# EAGLE library part ADT2-1T-1P+ (library SamacSys_Parts)
Audio Transformers / Signal Transformers RF XFMR / SURF MOUNT / RoHS 50 0.5 to 650 MHz Source: Datasheet <https://www.minicircuits.com/pdfs/ADT1.5-1.pdf>
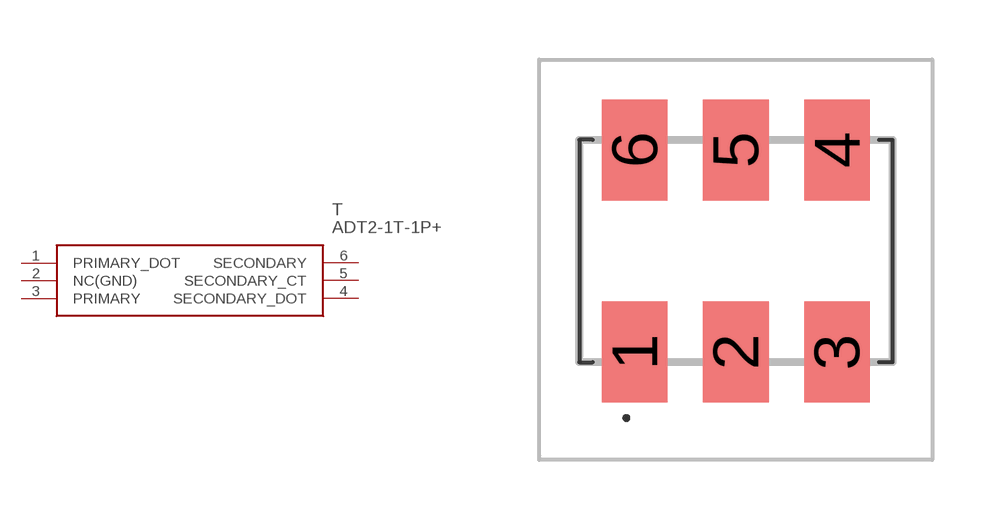
[diagram p0: symbol with the pads of ADT2-1T-1P; footprint ADT2-1T-1P]

Designator prefix T

## ADT2-1T-1P+ (Description: Audio Transformers / Signal Transformers RF XFMR / SURF MOUNT / RoHS; Height: 2.84mm; Manufacturer_Name: Mini-Circuits; Manufacturer_Part_Number: ADT2-1T-1P+; Mouser_Part_Number: 139-ADT2-1T-1P+; Mouser_Price-Stock: https://www.mouser.com/ProductDetail/Mini-Circuits/ADT2-1T-1P+?qs=xZ%2FP%252Ba9zWqZKLF6pAwHM4Q%3D%3D)  [ADT2-1T-1P]
1  PRIMARY_DOT
2  NC(GND)
3  PRIMARY
4  SECONDARY_DOT
5  SECONDARY_CT
6  SECONDARY

## Footprint ADT2-1T-1P (pad centres in mm)
ADT2-1T-1P+
smd 1.65 x 2.54: 1 -2.54,-2.54; 2 0,-2.54; 3 2.54,-2.54; 4 2.54,2.54; 5 0,2.54; 6 -2.54,2.54